# EAGLE library part TPS61220DCKR (library maholli)
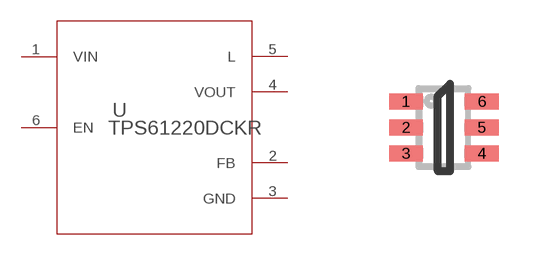
[diagram p12: symbol with the pads of DCK0006A; footprint DCK0006A]

Designator prefix U

## TPS61220DCKR (COMPTYPE: IC; MANUFACTURER: Texas Instruments; MOUNTTYPE: SMT; PACKAGEREFERENCE: DCK0006A; PARTNUMBER: TPS61220DCK; PIN_COUNT: 6; REFDES: RefDes; ROHS: Y; TYPE: TYPE; VALUE: Value)  [DCK0006A]
1  VIN  pwr
2  FB  in
3  GND  pwr
4  VOUT  pwr
5  L  pas
6  EN  in

## Footprint DCK0006A (pad centres in mm)
smd 0.85 x 0.4: 1 -0.95,0.65; 2 -0.95,0; 3 -0.95,-0.65; 4 0.95,-0.65; 5 0.95,0; 6 0.95,0.65